# Altium footprint library CONN_S5B-ZR-SM4A-TF_JST.PcbLib: 1 footprints
Each footprint in its own frame and in the unit in brackets; x right, y up, seen from the top. Pads: shape width x height; smd on the part's side, far side on the other; paste and mask are expansions set on the pad; w line width, h text height; cw(c..) or ccw(c..) is an arc to the next point about the centre after c.
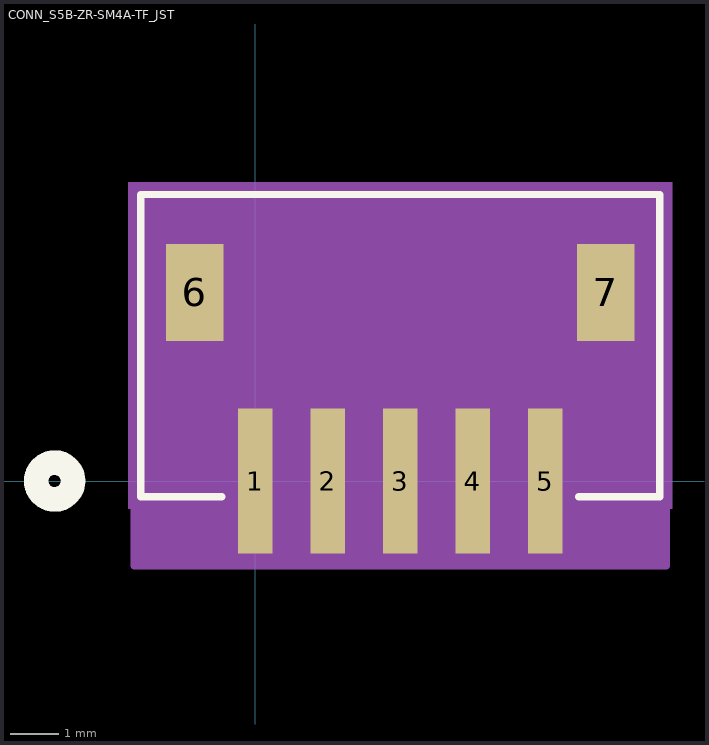
[diagram p0: the footprint, top view; thin cyan lines are the x and y axes]

## CONN_S5B-ZR-SM4A-TF_JST [mil]
pads (7):
  rect 28x118 smd paste+0 mask+0: 1(0,0) 2(59.06,0) 3(118.11,0) 4(177.17,0) 5(236.22,0)
  rect 47x79 smd: 6(-49.21,153.62) 7(285.43,153.62)
Top Overlay:
  circle w20: c-163.39,0 r15
  lines w6: -27.1,-12.69 -93.39,-12.69 -93.39,233.31 329.61,233.31 329.61,-12.69 263.32,-12.69
Bottom Overlay:
  circle w20: c-163.39,0 r15
Mechanical 5:
  region: -103.39,243.31 339.61,243.31 339.61,-22.69 -103.39,-22.69
Mechanical 7:
  lines w1: -178.71,10 -168.71,10 -173.71,0 -178.71,10
Mechanical 13:
  circle w20: c0,75 r15
  lines w1: -88.39,-7.69 -88.39,228.31 324.61,228.31 324.61,-7.69 -88.39,-7.69
Mechanical 15:
  region: 334.93,238.31 -98.71,238.31 -98.71,-69 334.93,-69
  lines w6: -98.71,-69 334.93,-69 334.93,238.31 -98.71,238.31 -98.71,-69
3D body: height 10, standoff 0, extent 0,0 10,10